# Altium schematic symbol library SIC632.SchLib: 1 symbol
Pins are listed as number, name and electrical type; pins without a type are passive.

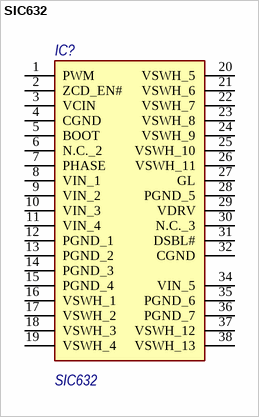
[diagram p0: symbol SIC632]

## SIC632
designator IC?
Integrated half bridge; Manufacturer number: SIC632
footprint SIC634CDT1GE3
pins: 1 PWM, 2 ZCD_EN#, 3 VCIN, 4 CGND, 5 BOOT, 6 N.C._2, 7 PHASE, 8 VIN_1, 9 VIN_2, 10 VIN_3, 11 VIN_4, 12 PGND_1, 13 PGND_2, 14 PGND_3, 15 PGND_4, 16 VSWH_1, 17 VSWH_2, 18 VSWH_3, 19 VSWH_4, 20 VSWH_5, 21 VSWH_6, 22 VSWH_7, 23 VSWH_8, 24 VSWH_9, 25 VSWH_10, 26 VSWH_11, 27 GL, 28 PGND_5, 29 VDRV, 30 N.C._3, 31 DSBL#, 32 CGND, 34 VIN_5, 35 PGND_6, 36 PGND_7, 37 VSWH_12, 38 VSWH_13